# Altium footprint library MLACHM_M.PCBLIB: 91 footprints (part 2 of 7)
Each footprint in its own frame and in the unit in brackets; x right, y up, seen from the top. Pads: shape width x height; smd on the part's side, far side on the other; paste and mask are expansions set on the pad; w line width, h text height; cw(c..) or ccw(c..) is an arc to the next point about the centre after c.
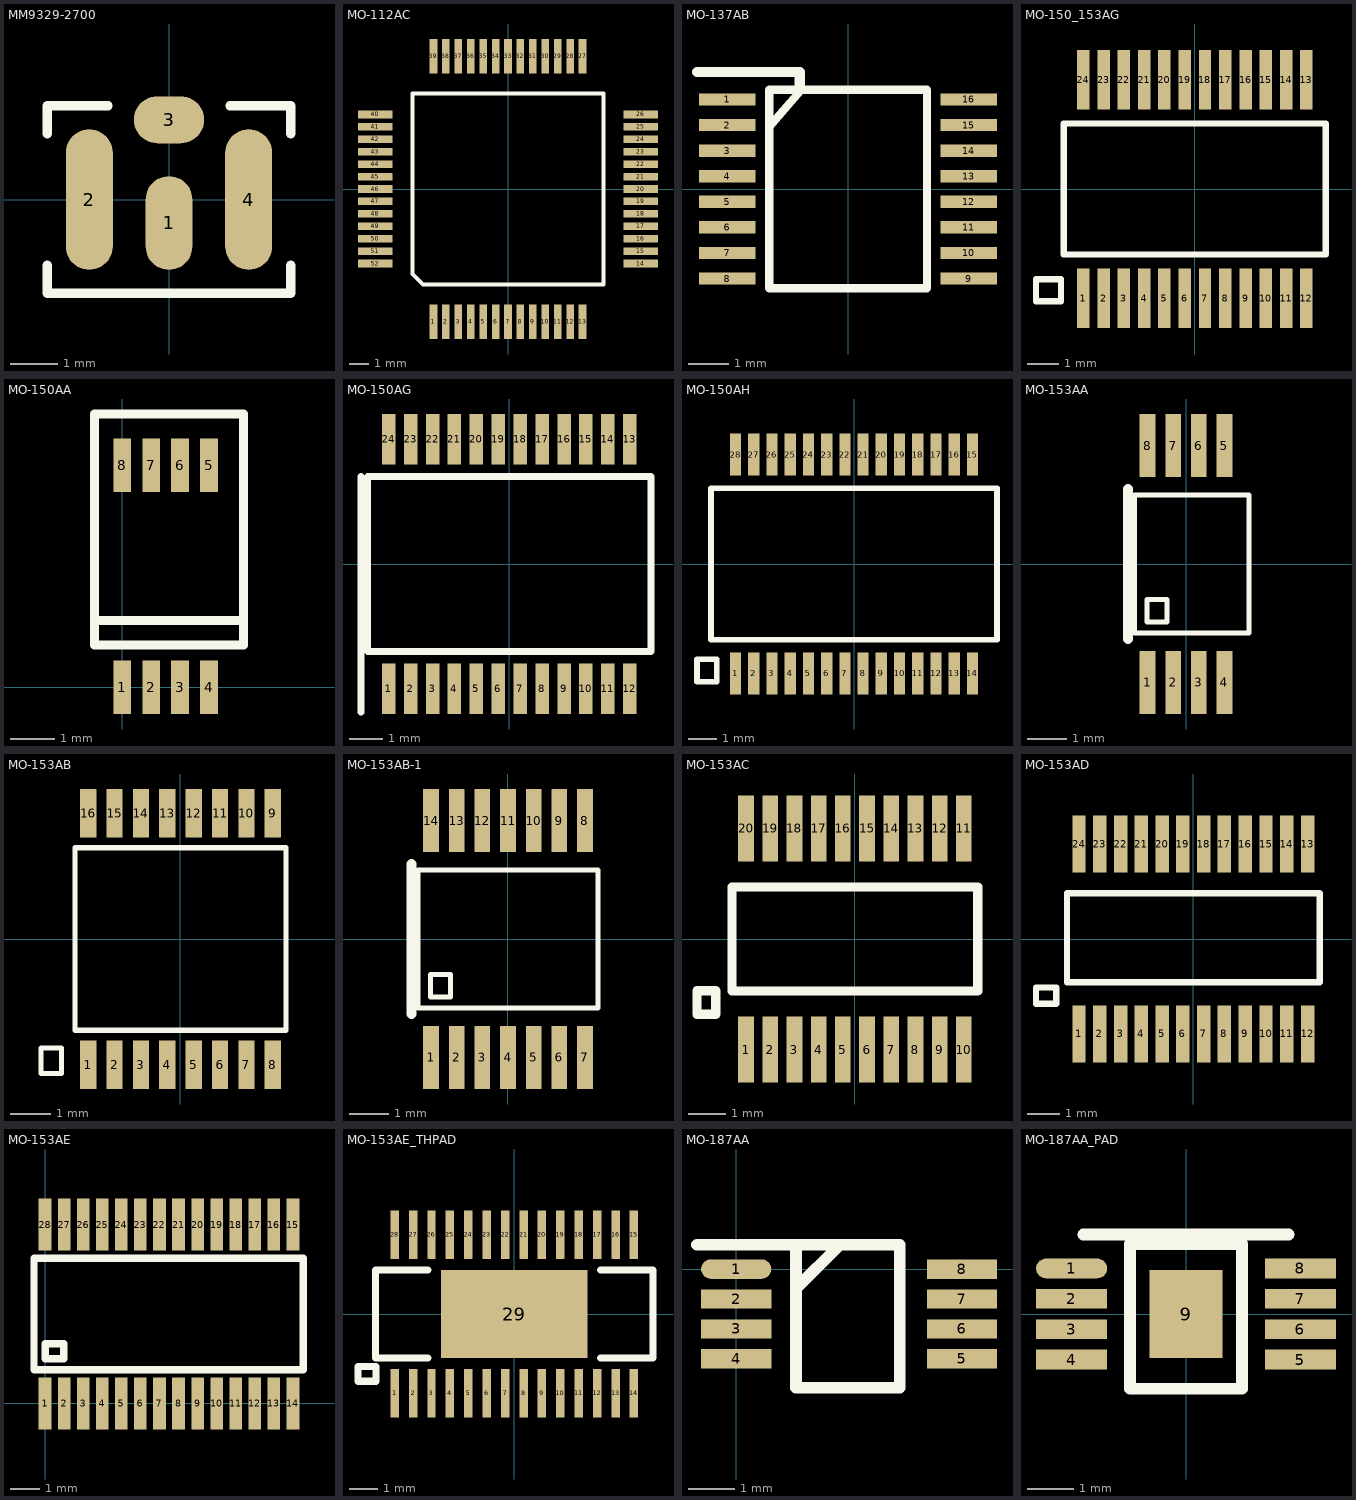
[diagram p1: the footprints below, top view; thin cyan lines are the x and y axes]

## MM9329-2700 [mm]
pads (4):
  oval 1x2 smd: 1(0,-0.5)
  oval 1x3 smd: 2(-1.7,0) 4(1.7,0)
  oval 1.5x1 smd: 3(0,1.7)
TopOverlay:
  lines w0.2: -2.6,-1.4 -2.6,-2 2.6,-2 2.6,-1.4 ; -2.6,1.4 -2.6,2 -1.3,2 ; 1.3,2 2.6,2 2.6,1.4

## MO-112AC [mm]
pads (52):
  rect 0.4x1.8 smd: 1(-3.9,-6.95) 2(-3.25,-6.95) 3(-2.6,-6.95) 4(-1.95,-6.95) 5(-1.3,-6.95) 6(-0.65,-6.95) 7(0,-6.95) 8(0.65,-6.95) 9(1.3,-6.95) 10(1.95,-6.95) 11(2.6,-6.95) 12(3.25,-6.95) 13(3.9,-6.95) 27(3.9,6.95) 28(3.25,6.95) 29(2.6,6.95) 30(1.95,6.95) 31(1.3,6.95) 32(0.65,6.95) 33(0,6.95) 34(-0.65,6.95) 35(-1.3,6.95) 36(-1.95,6.95) 37(-2.6,6.95) 38(-3.25,6.95) 39(-3.9,6.95)
  rect 1.8x0.4 smd: 14(6.95,-3.9) 15(6.95,-3.25) 16(6.95,-2.6) 17(6.95,-1.95) 18(6.95,-1.3) 19(6.95,-0.65) 20(6.95,0) 21(6.95,0.65) 22(6.95,1.3) 23(6.95,1.95) 24(6.95,2.6) 25(6.95,3.25) 26(6.95,3.9) 40(-6.95,3.9) 41(-6.95,3.25) 42(-6.95,2.6) 43(-6.95,1.95) 44(-6.95,1.3) 45(-6.95,0.65) 46(-6.95,0) 47(-6.95,-0.65) 48(-6.95,-1.3) 49(-6.95,-1.95) 50(-6.95,-2.6) 51(-6.95,-3.25) 52(-6.95,-3.9)
TopOverlay:
  lines w0.203: -5,-4.45 -5,5 5,5 5,-5 -4.45,-5 -5,-4.45
3D body: height 2.45, standoff 0.13, extent -5,-5 5,5
3D body: height 1, standoff 0.8, extent 5.05,-0.15 6.1,0.15
3D body: height 0.8, standoff 0, extent 5.9,-0.15 6.1,0.15
3D body: height 0.25, standoff 0, extent 5.9,-0.15 6.95,0.15
3D body: height 0.25, standoff 0, extent 5.9,3.75 6.95,4.05
3D body: height 0.8, standoff 0, extent 5.9,3.75 6.1,4.05
3D body: height 1, standoff 0.8, extent 5.05,3.75 6.1,4.05
3D body: height 0.25, standoff 0, extent 5.9,3.1 6.95,3.4
3D body: height 0.8, standoff 0, extent 5.9,3.1 6.1,3.4
3D body: height 1, standoff 0.8, extent 5.05,3.1 6.1,3.4
3D body: height 0.25, standoff 0, extent 5.9,2.45 6.95,2.75
3D body: height 0.8, standoff 0, extent 5.9,2.45 6.1,2.75
3D body: height 1, standoff 0.8, extent 5.05,2.45 6.1,2.75
3D body: height 0.25, standoff 0, extent 5.9,1.8 6.95,2.1
3D body: height 0.8, standoff 0, extent 5.9,1.8 6.1,2.1
3D body: height 1, standoff 0.8, extent 5.05,1.8 6.1,2.1
3D body: height 0.25, standoff 0, extent 5.9,1.15 6.95,1.45
3D body: height 0.8, standoff 0, extent 5.9,1.15 6.1,1.45
3D body: height 1, standoff 0.8, extent 5.05,1.15 6.1,1.45
3D body: height 0.25, standoff 0, extent 5.9,0.5 6.95,0.8
3D body: height 0.8, standoff 0, extent 5.9,0.5 6.1,0.8
3D body: height 1, standoff 0.8, extent 5.05,0.5 6.1,0.8
3D body: height 0.25, standoff 0, extent 5.9,-0.8 6.95,-0.5
3D body: height 0.8, standoff 0, extent 5.9,-0.8 6.1,-0.5
3D body: height 1, standoff 0.8, extent 5.05,-0.8 6.1,-0.5
3D body: height 0.25, standoff 0, extent 5.9,-1.45 6.95,-1.15
3D body: height 0.8, standoff 0, extent 5.9,-1.45 6.1,-1.15
3D body: height 1, standoff 0.8, extent 5.05,-1.45 6.1,-1.15
3D body: height 0.25, standoff 0, extent 5.9,-2.1 6.95,-1.8
3D body: height 0.8, standoff 0, extent 5.9,-2.1 6.1,-1.8
3D body: height 1, standoff 0.8, extent 5.05,-2.1 6.1,-1.8
3D body: height 0.25, standoff 0, extent 5.9,-2.75 6.95,-2.45
3D body: height 0.8, standoff 0, extent 5.9,-2.75 6.1,-2.45
3D body: height 1, standoff 0.8, extent 5.05,-2.75 6.1,-2.45
3D body: height 0.25, standoff 0, extent 5.9,-3.4 6.95,-3.1
3D body: height 0.8, standoff 0, extent 5.9,-3.4 6.1,-3.1
3D body: height 1, standoff 0.8, extent 5.05,-3.4 6.1,-3.1
3D body: height 0.25, standoff 0, extent 5.9,-4.05 6.95,-3.75
3D body: height 0.8, standoff 0, extent 5.9,-4.05 6.1,-3.75
3D body: height 1, standoff 0.8, extent 5.05,-4.05 6.1,-3.75
3D body: height 1, standoff 0.8, extent 3.75,5.05 4.05,6.1
3D body: height 0.8, standoff 0, extent 3.75,5.9 4.05,6.1
3D body: height 0.25, standoff 0, extent 3.75,5.9 4.05,6.95
3D body: height 1, standoff 0.8, extent 3.1,5.05 3.4,6.1
3D body: height 0.8, standoff 0, extent 3.1,5.9 3.4,6.1
3D body: height 0.25, standoff 0, extent 3.1,5.9 3.4,6.95
3D body: height 1, standoff 0.8, extent 2.45,5.05 2.75,6.1
3D body: height 0.8, standoff 0, extent 2.45,5.9 2.75,6.1
3D body: height 0.25, standoff 0, extent 2.45,5.9 2.75,6.95
3D body: height 1, standoff 0.8, extent 1.8,5.05 2.1,6.1
3D body: height 0.8, standoff 0, extent 1.8,5.9 2.1,6.1
3D body: height 0.25, standoff 0, extent 1.8,5.9 2.1,6.95
3D body: height 1, standoff 0.8, extent 1.15,5.05 1.45,6.1
3D body: height 0.8, standoff 0, extent 1.15,5.9 1.45,6.1
3D body: height 0.25, standoff 0, extent 1.15,5.9 1.45,6.95
3D body: height 1, standoff 0.8, extent 0.5,5.05 0.8,6.1
3D body: height 0.8, standoff 0, extent 0.5,5.9 0.8,6.1
3D body: height 0.25, standoff 0, extent 0.5,5.9 0.8,6.95
3D body: height 1, standoff 0.8, extent -0.8,5.05 -0.5,6.1
3D body: height 0.8, standoff 0, extent -0.8,5.9 -0.5,6.1
3D body: height 0.25, standoff 0, extent -0.8,5.9 -0.5,6.95
3D body: height 1, standoff 0.8, extent -1.45,5.05 -1.15,6.1
3D body: height 0.8, standoff 0, extent -1.45,5.9 -1.15,6.1
3D body: height 0.25, standoff 0, extent -1.45,5.9 -1.15,6.95
3D body: height 1, standoff 0.8, extent -2.1,5.05 -1.8,6.1
3D body: height 0.8, standoff 0, extent -2.1,5.9 -1.8,6.1
3D body: height 0.25, standoff 0, extent -2.1,5.9 -1.8,6.95
3D body: height 1, standoff 0.8, extent -2.75,5.05 -2.45,6.1
3D body: height 0.8, standoff 0, extent -2.75,5.9 -2.45,6.1
3D body: height 0.25, standoff 0, extent -2.75,5.9 -2.45,6.95
3D body: height 1, standoff 0.8, extent -3.4,5.05 -3.1,6.1
3D body: height 0.8, standoff 0, extent -3.4,5.9 -3.1,6.1
3D body: height 0.25, standoff 0, extent -3.4,5.9 -3.1,6.95
3D body: height 1, standoff 0.8, extent -4.05,5.05 -3.75,6.1
3D body: height 0.8, standoff 0, extent -4.05,5.9 -3.75,6.1
3D body: height 0.25, standoff 0, extent -4.05,5.9 -3.75,6.95
3D body: height 0.25, standoff 0, extent -0.15,5.9 0.15,6.95
3D body: height 0.8, standoff 0, extent -0.15,5.9 0.15,6.1
3D body: height 1, standoff 0.8, extent -0.15,5.05 0.15,6.1
3D body: height 1, standoff 0.8, extent -6.1,3.75 -5.05,4.05
3D body: height 0.8, standoff 0, extent -6.1,3.75 -5.9,4.05
3D body: height 0.25, standoff 0, extent -6.95,3.75 -5.9,4.05
3D body: height 1, standoff 0.8, extent -6.1,3.1 -5.05,3.4
3D body: height 0.8, standoff 0, extent -6.1,3.1 -5.9,3.4
3D body: height 0.25, standoff 0, extent -6.95,3.1 -5.9,3.4
3D body: height 1, standoff 0.8, extent -6.1,2.45 -5.05,2.75
3D body: height 0.8, standoff 0, extent -6.1,2.45 -5.9,2.75
3D body: height 0.25, standoff 0, extent -6.95,2.45 -5.9,2.75
3D body: height 1, standoff 0.8, extent -6.1,1.8 -5.05,2.1
3D body: height 0.8, standoff 0, extent -6.1,1.8 -5.9,2.1
3D body: height 0.25, standoff 0, extent -6.95,1.8 -5.9,2.1
3D body: height 1, standoff 0.8, extent -6.1,1.15 -5.05,1.45
3D body: height 0.8, standoff 0, extent -6.1,1.15 -5.9,1.45
3D body: height 0.25, standoff 0, extent -6.95,1.15 -5.9,1.45
3D body: height 1, standoff 0.8, extent -6.1,0.5 -5.05,0.8
3D body: height 0.8, standoff 0, extent -6.1,0.5 -5.9,0.8
3D body: height 0.25, standoff 0, extent -6.95,0.5 -5.9,0.8
3D body: height 1, standoff 0.8, extent -6.1,-0.8 -5.05,-0.5
3D body: height 0.8, standoff 0, extent -6.1,-0.8 -5.9,-0.5
3D body: height 0.25, standoff 0, extent -6.95,-0.8 -5.9,-0.5
3D body: height 1, standoff 0.8, extent -6.1,-1.45 -5.05,-1.15
3D body: height 0.8, standoff 0, extent -6.1,-1.45 -5.9,-1.15
3D body: height 0.25, standoff 0, extent -6.95,-1.45 -5.9,-1.15
3D body: height 1, standoff 0.8, extent -6.1,-2.1 -5.05,-1.8
3D body: height 0.8, standoff 0, extent -6.1,-2.1 -5.9,-1.8
3D body: height 0.25, standoff 0, extent -6.95,-2.1 -5.9,-1.8
3D body: height 1, standoff 0.8, extent -6.1,-2.75 -5.05,-2.45
3D body: height 0.8, standoff 0, extent -6.1,-2.75 -5.9,-2.45
3D body: height 0.25, standoff 0, extent -6.95,-2.75 -5.9,-2.45
3D body: height 1, standoff 0.8, extent -6.1,-3.4 -5.05,-3.1
3D body: height 0.8, standoff 0, extent -6.1,-3.4 -5.9,-3.1
3D body: height 0.25, standoff 0, extent -6.95,-3.4 -5.9,-3.1
3D body: height 1, standoff 0.8, extent -6.1,-4.05 -5.05,-3.75
3D body: height 0.8, standoff 0, extent -6.1,-4.05 -5.9,-3.75
3D body: height 0.25, standoff 0, extent -6.95,-4.05 -5.9,-3.75
3D body: height 0.25, standoff 0, extent -6.95,-0.15 -5.9,0.15
3D body: height 0.8, standoff 0, extent -6.1,-0.15 -5.9,0.15
3D body: height 1, standoff 0.8, extent -6.1,-0.15 -5.05,0.15
3D body: height 1, standoff 0.8, extent -4.05,-6.1 -3.75,-5.05
3D body: height 0.8, standoff 0, extent -4.05,-6.1 -3.75,-5.9
3D body: height 0.25, standoff 0, extent -4.05,-6.95 -3.75,-5.9
3D body: height 1, standoff 0.8, extent -3.4,-6.1 -3.1,-5.05
3D body: height 0.8, standoff 0, extent -3.4,-6.1 -3.1,-5.9
3D body: height 0.25, standoff 0, extent -3.4,-6.95 -3.1,-5.9
3D body: height 1, standoff 0.8, extent -2.75,-6.1 -2.45,-5.05
3D body: height 0.8, standoff 0, extent -2.75,-6.1 -2.45,-5.9
3D body: height 0.25, standoff 0, extent -2.75,-6.95 -2.45,-5.9
3D body: height 1, standoff 0.8, extent -2.1,-6.1 -1.8,-5.05
3D body: height 0.8, standoff 0, extent -2.1,-6.1 -1.8,-5.9
3D body: height 0.25, standoff 0, extent -2.1,-6.95 -1.8,-5.9
3D body: height 1, standoff 0.8, extent -1.45,-6.1 -1.15,-5.05
3D body: height 0.8, standoff 0, extent -1.45,-6.1 -1.15,-5.9
3D body: height 0.25, standoff 0, extent -1.45,-6.95 -1.15,-5.9
3D body: height 1, standoff 0.8, extent -0.8,-6.1 -0.5,-5.05
3D body: height 0.8, standoff 0, extent -0.8,-6.1 -0.5,-5.9
3D body: height 0.25, standoff 0, extent -0.8,-6.95 -0.5,-5.9
3D body: height 1, standoff 0.8, extent 0.5,-6.1 0.8,-5.05
3D body: height 0.8, standoff 0, extent 0.5,-6.1 0.8,-5.9
3D body: height 0.25, standoff 0, extent 0.5,-6.95 0.8,-5.9
3D body: height 1, standoff 0.8, extent 1.15,-6.1 1.45,-5.05
3D body: height 0.8, standoff 0, extent 1.15,-6.1 1.45,-5.9
3D body: height 0.25, standoff 0, extent 1.15,-6.95 1.45,-5.9
3D body: height 1, standoff 0.8, extent 1.8,-6.1 2.1,-5.05
3D body: height 0.8, standoff 0, extent 1.8,-6.1 2.1,-5.9
3D body: height 0.25, standoff 0, extent 1.8,-6.95 2.1,-5.9
3D body: height 1, standoff 0.8, extent 2.45,-6.1 2.75,-5.05
3D body: height 0.8, standoff 0, extent 2.45,-6.1 2.75,-5.9
3D body: height 0.25, standoff 0, extent 2.45,-6.95 2.75,-5.9
3D body: height 1, standoff 0.8, extent 3.1,-6.1 3.4,-5.05
3D body: height 0.8, standoff 0, extent 3.1,-6.1 3.4,-5.9
3D body: height 0.25, standoff 0, extent 3.1,-6.95 3.4,-5.9
3D body: height 1, standoff 0.8, extent 3.75,-6.1 4.05,-5.05
3D body: height 0.8, standoff 0, extent 3.75,-6.1 4.05,-5.9
3D body: height 0.25, standoff 0, extent 3.75,-6.95 4.05,-5.9
3D body: height 0.25, standoff 0, extent -0.15,-6.95 0.15,-5.9
3D body: height 0.8, standoff 0, extent -0.15,-6.1 0.15,-5.9
3D body: height 1, standoff 0.8, extent -0.15,-6.1 0.15,-5.05

## MO-137AB [mil]
pads (16):
  rect 55x12 smd: 1(-118,87.5) 2(-118,62.5) 3(-118,37.5) 4(-118,12.5) 5(-118,-12.5) 6(-118,-37.5) 7(-118,-62.5) 8(-118,-87.5) 9(118,-87.5) 10(118,-62.5) 11(118,-37.5) 12(118,-12.5) 13(118,12.5) 14(118,37.5) 15(118,62.5) 16(118,87.5)
TopOverlay:
  lines w8: -77,61 -46.45,96 ; -77,-97 77,-97 77,97 -77,97 -77,-97
  lines w9.84: -147.64,114.17 -47.24,114.17 -47.24,97
3D body: height 69, standoff 10, extent -77,-97 77,97
3D body: height 10, standoff 0, extent -118,82.5 -90,92.5
3D body: height 35, standoff 25, extent -100,82.5 -72,92.5
3D body: height 35, standoff 0, extent -100,82.5 -90,92.5
3D body: height 35, standoff 0, extent -100,57.5 -90,67.5
3D body: height 35, standoff 25, extent -100,57.5 -72,67.5
3D body: height 10, standoff 0, extent -118,57.5 -90,67.5
3D body: height 35, standoff 0, extent -100,32.5 -90,42.5
3D body: height 35, standoff 25, extent -100,32.5 -72,42.5
3D body: height 10, standoff 0, extent -118,32.5 -90,42.5
3D body: height 35, standoff 0, extent -100,7.5 -90,17.5
3D body: height 35, standoff 25, extent -100,7.5 -72,17.5
3D body: height 10, standoff 0, extent -118,7.5 -90,17.5
3D body: height 10, standoff 0, extent -118,-92.5 -90,-82.5
3D body: height 35, standoff 25, extent -100,-92.5 -72,-82.5
3D body: height 35, standoff 0, extent -100,-92.5 -90,-82.5
3D body: height 10, standoff 0, extent -118,-67.5 -90,-57.5
3D body: height 35, standoff 25, extent -100,-67.5 -72,-57.5
3D body: height 35, standoff 0, extent -100,-67.5 -90,-57.5
3D body: height 10, standoff 0, extent -118,-42.5 -90,-32.5
3D body: height 35, standoff 25, extent -100,-42.5 -72,-32.5
3D body: height 35, standoff 0, extent -100,-42.5 -90,-32.5
3D body: height 35, standoff 0, extent -100,-17.5 -90,-7.5
3D body: height 35, standoff 25, extent -100,-17.5 -72,-7.5
3D body: height 10, standoff 0, extent -118,-17.5 -90,-7.5
3D body: height 10, standoff 0, extent 90,-17.5 118,-7.5
3D body: height 35, standoff 25, extent 72,-17.5 100,-7.5
3D body: height 35, standoff 0, extent 90,-17.5 100,-7.5
3D body: height 35, standoff 0, extent 90,-42.5 100,-32.5
3D body: height 35, standoff 25, extent 72,-42.5 100,-32.5
3D body: height 10, standoff 0, extent 90,-42.5 118,-32.5
3D body: height 35, standoff 0, extent 90,-67.5 100,-57.5
3D body: height 35, standoff 25, extent 72,-67.5 100,-57.5
3D body: height 10, standoff 0, extent 90,-67.5 118,-57.5
3D body: height 35, standoff 0, extent 90,-92.5 100,-82.5
3D body: height 35, standoff 25, extent 72,-92.5 100,-82.5
3D body: height 10, standoff 0, extent 90,-92.5 118,-82.5
3D body: height 10, standoff 0, extent 90,7.5 118,17.5
3D body: height 35, standoff 25, extent 72,7.5 100,17.5
3D body: height 35, standoff 0, extent 90,7.5 100,17.5
3D body: height 10, standoff 0, extent 90,32.5 118,42.5
3D body: height 35, standoff 25, extent 72,32.5 100,42.5
3D body: height 35, standoff 0, extent 90,32.5 100,42.5
3D body: height 10, standoff 0, extent 90,57.5 118,67.5
3D body: height 35, standoff 25, extent 72,57.5 100,67.5
3D body: height 35, standoff 0, extent 90,57.5 100,67.5
3D body: height 35, standoff 0, extent 90,82.5 100,92.5
3D body: height 35, standoff 25, extent 72,82.5 100,92.5
3D body: height 10, standoff 0, extent 90,82.5 118,92.5

## MO-150_153AG [mm]
pads (24):
  rect 0.4x1.9 smd mask+0.203: 1(-3.575,-3.5) 2(-2.925,-3.5) 3(-2.275,-3.5) 4(-1.625,-3.5) 5(-0.975,-3.5) 6(-0.325,-3.5) 7(0.325,-3.5) 8(0.975,-3.5) 9(1.625,-3.5) 10(2.275,-3.5) 11(2.925,-3.5) 12(3.575,-3.5) 13(3.575,3.5) 14(2.925,3.5) 15(2.275,3.5) 16(1.625,3.5) 17(0.975,3.5) 18(0.325,3.5) 19(-0.325,3.5) 20(-0.975,3.5) 21(-1.625,3.5) 22(-2.275,3.5) 23(-2.925,3.5) 24(-3.575,3.5)
TopOverlay:
  lines w0.203: -5.093,-3.597 -5.093,-2.897 -4.293,-2.897 -4.293,-3.597 -5.093,-3.597 ; -4.2,-2.1 4.2,-2.1 4.2,2.1 -4.2,2.1 -4.2,-2.1
3D body: height 0.5, standoff 0, extent -3.85,2.55 -3.3,3.7
3D body: height 0.5, standoff 0, extent -3.2,2.55 -2.65,3.7
3D body: height 0.5, standoff 0, extent -2.55,2.55 -2,3.7
3D body: height 0.5, standoff 0, extent -1.9,2.55 -1.35,3.7
3D body: height 0.5, standoff 0, extent -1.25,2.55 -0.7,3.7
3D body: height 0.5, standoff 0, extent -0.6,2.55 -0.05,3.7
3D body: height 0.5, standoff 0, extent 0.05,2.55 0.6,3.7
3D body: height 0.5, standoff 0, extent 0.7,2.55 1.25,3.7
3D body: height 0.5, standoff 0, extent 1.35,2.55 1.9,3.7
3D body: height 0.5, standoff 0, extent 2,2.55 2.55,3.7
3D body: height 0.5, standoff 0, extent 2.65,2.55 3.2,3.7
3D body: height 0.5, standoff 0, extent 3.3,2.55 3.85,3.7
3D body: height 0.5, standoff 0, extent 3.3,-3.8 3.85,-2.65
3D body: height 0.5, standoff 0, extent 2.65,-3.8 3.2,-2.65
3D body: height 0.5, standoff 0, extent 2,-3.8 2.55,-2.65
3D body: height 0.5, standoff 0, extent 1.35,-3.8 1.9,-2.65
3D body: height 0.5, standoff 0, extent 0.7,-3.8 1.25,-2.65
3D body: height 0.5, standoff 0, extent 0.05,-3.8 0.6,-2.65
3D body: height 0.5, standoff 0, extent -0.6,-3.8 -0.05,-2.65
3D body: height 0.5, standoff 0, extent -1.25,-3.8 -0.7,-2.65
3D body: height 0.5, standoff 0, extent -1.9,-3.8 -1.35,-2.65
3D body: height 0.5, standoff 0, extent -2.55,-3.8 -2,-2.65
3D body: height 0.5, standoff 0, extent -3.2,-3.8 -2.65,-2.65
3D body: height 0.5, standoff 0, extent -3.85,-3.8 -3.3,-2.65
3D body: height 1.75, standoff 0.1, extent -4.1,-2.7 4.1,2.7

## MO-150AA [mm]
pads (8):
  rect 0.4x1.2 smd: 1(0,0) 2(0.65,0) 3(1.3,0) 4(1.95,0) 5(1.95,5) 6(1.3,5) 7(0.65,5) 8(0,5)
TopOverlay:
  lines w0.203: -0.625,1.5 2.725,1.5 ; -0.625,0.95 -0.625,6.15 2.725,6.15 2.725,0.95 -0.625,0.95

## MO-150AG [mm]
pads (24):
  rect 0.4x1.5 smd mask+0.203: 1(-3.575,-3.7) 2(-2.925,-3.7) 3(-2.275,-3.7) 4(-1.625,-3.7) 5(-0.975,-3.7) 6(-0.325,-3.7) 7(0.325,-3.7) 8(0.975,-3.7) 9(1.625,-3.7) 10(2.275,-3.7) 11(2.925,-3.7) 12(3.575,-3.7) 13(3.575,3.7) 14(2.925,3.7) 15(2.275,3.7) 16(1.625,3.7) 17(0.975,3.7) 18(0.325,3.7) 19(-0.325,3.7) 20(-0.975,3.7) 21(-1.625,3.7) 22(-2.275,3.7) 23(-2.925,3.7) 24(-3.575,3.7)
TopOverlay:
  lines w0.203: -4.4,-4.4 -4.4,2.6 ; -4.2,-2.6 -4.2,2.6 4.2,2.6 4.2,-2.6 -4.2,-2.6
3D body: height 1.75, standoff 0.1, extent -4.1,-2.7 4.1,2.7
3D body: height 0.5, standoff 0, extent -3.85,-3.8 -3.3,-2.65
3D body: height 0.5, standoff 0, extent -3.2,-3.8 -2.65,-2.65
3D body: height 0.5, standoff 0, extent -2.55,-3.8 -2,-2.65
3D body: height 0.5, standoff 0, extent -1.9,-3.8 -1.35,-2.65
3D body: height 0.5, standoff 0, extent -1.25,-3.8 -0.7,-2.65
3D body: height 0.5, standoff 0, extent -0.6,-3.8 -0.05,-2.65
3D body: height 0.5, standoff 0, extent 0.05,-3.8 0.6,-2.65
3D body: height 0.5, standoff 0, extent 0.7,-3.8 1.25,-2.65
3D body: height 0.5, standoff 0, extent 1.35,-3.8 1.9,-2.65
3D body: height 0.5, standoff 0, extent 2,-3.8 2.55,-2.65
3D body: height 0.5, standoff 0, extent 2.65,-3.8 3.2,-2.65
3D body: height 0.5, standoff 0, extent 3.3,-3.8 3.85,-2.65
3D body: height 0.5, standoff 0, extent 3.3,2.55 3.85,3.7
3D body: height 0.5, standoff 0, extent 2.65,2.55 3.2,3.7
3D body: height 0.5, standoff 0, extent 2,2.55 2.55,3.7
3D body: height 0.5, standoff 0, extent 1.35,2.55 1.9,3.7
3D body: height 0.5, standoff 0, extent 0.7,2.55 1.25,3.7
3D body: height 0.5, standoff 0, extent 0.05,2.55 0.6,3.7
3D body: height 0.5, standoff 0, extent -0.6,2.55 -0.05,3.7
3D body: height 0.5, standoff 0, extent -1.25,2.55 -0.7,3.7
3D body: height 0.5, standoff 0, extent -1.9,2.55 -1.35,3.7
3D body: height 0.5, standoff 0, extent -2.55,2.55 -2,3.7
3D body: height 0.5, standoff 0, extent -3.2,2.55 -2.65,3.7
3D body: height 0.5, standoff 0, extent -3.85,2.55 -3.3,3.7

## MO-150AH [mm]
pads (28):
  rect 0.4x1.5 smd: 1(-4.225,-3.9) 2(-3.575,-3.9) 3(-2.925,-3.9) 4(-2.275,-3.9) 5(-1.625,-3.9) 6(-0.975,-3.9) 7(-0.325,-3.9) 8(0.325,-3.9) 9(0.975,-3.9) 10(1.625,-3.9) 11(2.275,-3.9) 12(2.925,-3.9) 13(3.575,-3.9) 14(4.225,-3.9) 15(4.225,3.9) 16(3.575,3.9) 17(2.925,3.9) 18(2.275,3.9) 19(1.625,3.9) 20(0.975,3.9) 21(0.325,3.9) 22(-0.325,3.9) 23(-0.975,3.9) 24(-1.625,3.9) 25(-2.275,3.9) 26(-2.925,3.9) 27(-3.575,3.9) 28(-4.225,3.9)
TopOverlay:
  lines w0.203: -5.6,-4.2 -5.6,-3.4 -4.9,-3.4 -4.9,-4.2 -5.6,-4.2 ; -5.1,-2.7 -5.1,2.7 5.1,2.7 5.1,-2.7 -5.1,-2.7

## MO-153AA [mm]
pads (8):
  rect 0.4x1.6 smd mask+0.2: 1(-0.975,-3) 2(-0.325,-3) 3(0.325,-3) 4(0.975,-3) 5(0.975,3) 6(0.325,3) 7(-0.325,3) 8(-0.975,3)
TopOverlay:
  lines w0.127: -1.3,-1.75 -1.3,1.75 1.6,1.75 1.6,-1.75 -1.3,-1.75 ; -0.992,-1.471 -0.992,-0.9 -0.484,-0.9 -0.484,-1.471 -0.992,-1.471
  lines w0.254: -1.475,-1.9 -1.475,1.9
3D body: height 1.2, standoff 0, extent -1.575,-2.2 1.6,2.2
3D body: height 0.6, standoff 0, extent 0.825,-3.2 1.125,-2.2
3D body: height 0.6, standoff 0, extent -1.125,-3.2 -0.825,-2.2
3D body: height 0.6, standoff 0, extent -0.475,-3.2 -0.175,-2.2
3D body: height 0.6, standoff 0, extent 0.175,-3.2 0.475,-2.2
3D body: height 0.6, standoff 0, extent -1.125,2.2 -0.825,3.2
3D body: height 0.6, standoff 0, extent -0.475,2.2 -0.175,3.2
3D body: height 0.6, standoff 0, extent 0.175,2.2 0.475,3.2
3D body: height 0.6, standoff 0, extent 0.825,2.2 1.125,3.2

## MO-153AB [mm]
pads (16):
  rect 0.4x1.2 smd: 1(-2.275,-3.1) 2(-1.625,-3.1) 3(-0.975,-3.1) 4(-0.325,-3.1) 5(0.325,-3.1) 6(0.975,-3.1) 7(1.625,-3.1) 8(2.275,-3.1) 9(2.275,3.1) 10(1.625,3.1) 11(0.975,3.1) 12(0.325,3.1) 13(-0.325,3.1) 14(-0.975,3.1) 15(-1.625,3.1) 16(-2.275,3.1)
TopOverlay:
  lines w0.127: -3.442,-3.321 -2.934,-3.321 -2.934,-2.686 -3.442,-2.686 -3.442,-3.321 ; -2.6,-2.25 2.6,-2.25 2.6,2.25 -2.6,2.25 -2.6,-2.25
3D body: height 1.2, standoff 0, extent -2.875,-2.2 2.925,2.2
3D body: height 0.6, standoff 0, extent -0.475,-3.2 -0.175,-2.2
3D body: height 0.6, standoff 0, extent -2.425,-3.2 -2.125,-2.2
3D body: height 0.6, standoff 0, extent -1.775,-3.2 -1.475,-2.2
3D body: height 0.6, standoff 0, extent -1.125,-3.2 -0.825,-2.2
3D body: height 0.6, standoff 0, extent 0.175,-3.2 0.475,-2.2
3D body: height 0.6, standoff 0, extent 0.825,-3.2 1.125,-2.2
3D body: height 0.6, standoff 0, extent 1.475,-3.2 1.775,-2.2
3D body: height 0.6, standoff 0, extent -2.425,2.2 -2.125,3.2
3D body: height 0.6, standoff 0, extent -1.775,2.2 -1.475,3.2
3D body: height 0.6, standoff 0, extent -1.125,2.2 -0.825,3.2
3D body: height 0.6, standoff 0, extent 0.175,2.2 0.475,3.2
3D body: height 0.6, standoff 0, extent 0.825,2.2 1.125,3.2
3D body: height 0.6, standoff 0, extent 1.475,2.2 1.775,3.2
3D body: height 0.6, standoff 0, extent -0.475,2.2 -0.175,3.2
3D body: height 0.6, standoff 0, extent 2.125,2.375 2.425,3.375
3D body: height 0.6, standoff 0, extent 2.125,-3.025 2.425,-2.025

## MO-153AB-1 [mm]
pads (14):
  rect 0.4x1.6 smd mask+0.2: 1(-1.95,-3) 2(-1.3,-3) 3(-0.65,-3) 4(0,-3) 5(0.65,-3) 6(1.3,-3) 7(1.95,-3) 8(1.95,3) 9(1.3,3) 10(0.65,3) 11(0,3) 12(-0.65,3) 13(-1.3,3) 14(-1.95,3)
TopOverlay:
  lines w0.127: -2.275,-1.75 2.275,-1.75 2.275,1.75 -2.275,1.75 -2.275,-1.75 ; -1.967,-1.471 -1.459,-1.471 -1.459,-0.9 -1.967,-0.9 -1.967,-1.471
  lines w0.254: -2.45,-1.9 -2.45,1.9
3D body: height 0.6, standoff 0, extent -0.15,2.2 0.15,3.2
3D body: height 0.6, standoff 0, extent 1.8,2.2 2.1,3.2
3D body: height 0.6, standoff 0, extent 1.15,2.2 1.45,3.2
3D body: height 0.6, standoff 0, extent 0.5,2.2 0.8,3.2
3D body: height 0.6, standoff 0, extent -0.8,2.2 -0.5,3.2
3D body: height 0.6, standoff 0, extent -1.45,2.2 -1.15,3.2
3D body: height 0.6, standoff 0, extent -2.1,2.2 -1.8,3.2
3D body: height 0.6, standoff 0, extent 1.8,-3.2 2.1,-2.2
3D body: height 0.6, standoff 0, extent 1.15,-3.2 1.45,-2.2
3D body: height 0.6, standoff 0, extent 0.5,-3.2 0.8,-2.2
3D body: height 0.6, standoff 0, extent -0.8,-3.2 -0.5,-2.2
3D body: height 0.6, standoff 0, extent -1.45,-3.2 -1.15,-2.2
3D body: height 0.6, standoff 0, extent -2.1,-3.2 -1.8,-2.2
3D body: height 0.6, standoff 0, extent -0.15,-3.2 0.15,-2.2
3D body: height 1.2, standoff 0, extent -2.55,-2.2 2.55,2.2

## MO-153AC [mm]
pads (20):
  rect 0.42x1.78 smd: 1(-2.925,-2.97) 2(-2.275,-2.97) 3(-1.625,-2.97) 4(-0.975,-2.97) 5(-0.325,-2.97) 6(0.325,-2.97) 7(0.975,-2.97) 8(1.625,-2.97) 9(2.275,-2.97) 10(2.925,-2.97) 11(2.925,2.97) 12(2.275,2.97) 13(1.625,2.97) 14(0.975,2.97) 15(0.325,2.97) 16(-0.325,2.97) 17(-0.975,2.97) 18(-1.625,2.97) 19(-2.275,2.97) 20(-2.925,2.97)
TopOverlay:
  lines w0.254: -4.242,-2.021 -4.242,-1.386 -3.734,-1.386 -3.734,-2.021 -4.242,-2.021 ; -3.302,-1.397 -3.302,1.397 3.302,1.397 3.302,-1.397 -3.302,-1.397
3D body: height 1.2, standoff 0, extent -3.25,-2.2 3.25,2.2
3D body: height 0.15, standoff 0, extent -3.075,-3.2 -2.775,-2.6
3D body: height 0.6, standoff 0, extent -3.075,-2.75 -2.775,-2.6
3D body: height 0.6, standoff 0.45, extent -3.075,-2.75 -2.775,-2.15
3D body: height 0.15, standoff 0, extent -2.425,-3.2 -2.125,-2.6
3D body: height 0.6, standoff 0, extent -2.425,-2.75 -2.125,-2.6
3D body: height 0.6, standoff 0.45, extent -2.425,-2.75 -2.125,-2.15
3D body: height 0.15, standoff 0, extent -1.775,-3.2 -1.475,-2.6
3D body: height 0.6, standoff 0, extent -1.775,-2.75 -1.475,-2.6
3D body: height 0.6, standoff 0.45, extent -1.775,-2.75 -1.475,-2.15
3D body: height 0.15, standoff 0, extent -1.125,-3.2 -0.825,-2.6
3D body: height 0.6, standoff 0, extent -1.125,-2.75 -0.825,-2.6
3D body: height 0.6, standoff 0.45, extent -1.125,-2.75 -0.825,-2.15
3D body: height 0.15, standoff 0, extent -0.475,-3.2 -0.175,-2.6
3D body: height 0.6, standoff 0, extent -0.475,-2.75 -0.175,-2.6
3D body: height 0.6, standoff 0.45, extent -0.475,-2.75 -0.175,-2.15
3D body: height 0.15, standoff 0, extent 0.175,-3.2 0.475,-2.6
3D body: height 0.6, standoff 0, extent 0.175,-2.75 0.475,-2.6
3D body: height 0.6, standoff 0.45, extent 0.175,-2.75 0.475,-2.15
3D body: height 0.15, standoff 0, extent 0.825,-3.2 1.125,-2.6
3D body: height 0.6, standoff 0, extent 0.825,-2.75 1.125,-2.6
3D body: height 0.6, standoff 0.45, extent 0.825,-2.75 1.125,-2.15
3D body: height 0.15, standoff 0, extent 1.475,-3.2 1.775,-2.6
3D body: height 0.6, standoff 0, extent 1.475,-2.75 1.775,-2.6
3D body: height 0.6, standoff 0.45, extent 1.475,-2.75 1.775,-2.15
3D body: height 0.15, standoff 0, extent 2.125,-3.2 2.425,-2.6
3D body: height 0.6, standoff 0, extent 2.125,-2.75 2.425,-2.6
3D body: height 0.6, standoff 0.45, extent 2.125,-2.75 2.425,-2.15
3D body: height 0.15, standoff 0, extent 2.775,-3.2 3.075,-2.6
3D body: height 0.6, standoff 0, extent 2.775,-2.75 3.075,-2.6
3D body: height 0.6, standoff 0.45, extent 2.775,-2.75 3.075,-2.15
3D body: height 0.6, standoff 0.45, extent 2.775,2.15 3.075,2.75
3D body: height 0.6, standoff 0, extent 2.775,2.6 3.075,2.75
3D body: height 0.15, standoff 0, extent 2.775,2.6 3.075,3.2
3D body: height 0.6, standoff 0.45, extent 2.125,2.15 2.425,2.75
3D body: height 0.6, standoff 0, extent 2.125,2.6 2.425,2.75
3D body: height 0.15, standoff 0, extent 2.125,2.6 2.425,3.2
3D body: height 0.6, standoff 0.45, extent 1.475,2.15 1.775,2.75
3D body: height 0.6, standoff 0, extent 1.475,2.6 1.775,2.75
3D body: height 0.15, standoff 0, extent 1.475,2.6 1.775,3.2
3D body: height 0.6, standoff 0.45, extent 0.825,2.15 1.125,2.75
3D body: height 0.6, standoff 0, extent 0.825,2.6 1.125,2.75
3D body: height 0.15, standoff 0, extent 0.825,2.6 1.125,3.2
3D body: height 0.6, standoff 0.45, extent 0.175,2.15 0.475,2.75
3D body: height 0.6, standoff 0, extent 0.175,2.6 0.475,2.75
3D body: height 0.15, standoff 0, extent 0.175,2.6 0.475,3.2
3D body: height 0.6, standoff 0.45, extent -0.475,2.15 -0.175,2.75
3D body: height 0.6, standoff 0, extent -0.475,2.6 -0.175,2.75
3D body: height 0.15, standoff 0, extent -0.475,2.6 -0.175,3.2
3D body: height 0.6, standoff 0.45, extent -1.125,2.15 -0.825,2.75
3D body: height 0.6, standoff 0, extent -1.125,2.6 -0.825,2.75
3D body: height 0.15, standoff 0, extent -1.125,2.6 -0.825,3.2
3D body: height 0.6, standoff 0.45, extent -1.775,2.15 -1.475,2.75
3D body: height 0.6, standoff 0, extent -1.775,2.6 -1.475,2.75
3D body: height 0.15, standoff 0, extent -1.775,2.6 -1.475,3.2
3D body: height 0.6, standoff 0.45, extent -2.425,2.15 -2.125,2.75
3D body: height 0.6, standoff 0, extent -2.425,2.6 -2.125,2.75
3D body: height 0.15, standoff 0, extent -2.425,2.6 -2.125,3.2
3D body: height 0.6, standoff 0.45, extent -3.075,2.15 -2.775,2.75
3D body: height 0.6, standoff 0, extent -3.075,2.6 -2.775,2.75
3D body: height 0.15, standoff 0, extent -3.075,2.6 -2.775,3.2

## MO-153AD [mm]
pads (24):
  rect 0.42x1.78 smd paste-0.025: 1(-3.575,-2.97) 2(-2.925,-2.97) 3(-2.275,-2.97) 4(-1.625,-2.97) 5(-0.975,-2.97) 6(-0.325,-2.97) 7(0.325,-2.97) 8(0.975,-2.97) 9(1.625,-2.97) 10(2.275,-2.97) 11(2.925,-2.97) 12(3.575,-2.97) 13(3.575,2.97) 14(2.925,2.97) 15(2.275,2.97) 16(1.625,2.97) 17(0.975,2.97) 18(0.325,2.97) 19(-0.325,2.97) 20(-0.975,2.97) 21(-1.625,2.97) 22(-2.275,2.97) 23(-2.925,2.97) 24(-3.575,2.97)
TopOverlay:
  lines w0.2: -4.921,-2.026 -4.921,-1.518 -4.286,-1.518 -4.286,-2.026 -4.921,-2.026 ; -3.952,-1.357 3.952,-1.357 3.952,1.437 -3.952,1.437 -3.952,-1.357
3D body: height 0.6, standoff 0.45, extent -3.725,2.15 -3.425,2.75
3D body: height 0.6, standoff 0, extent -3.725,2.6 -3.425,2.75
3D body: height 0.15, standoff 0, extent -3.725,2.6 -3.425,3.2
3D body: height 0.15, standoff 0, extent -3.075,2.6 -2.775,3.2
3D body: height 0.6, standoff 0, extent -3.075,2.6 -2.775,2.75
3D body: height 0.6, standoff 0.45, extent -3.075,2.15 -2.775,2.75
3D body: height 0.15, standoff 0, extent -2.425,2.6 -2.125,3.2
3D body: height 0.6, standoff 0, extent -2.425,2.6 -2.125,2.75
3D body: height 0.6, standoff 0.45, extent -2.425,2.15 -2.125,2.75
3D body: height 0.15, standoff 0, extent -1.775,2.6 -1.475,3.2
3D body: height 0.6, standoff 0, extent -1.775,2.6 -1.475,2.75
3D body: height 0.6, standoff 0.45, extent -1.775,2.15 -1.475,2.75
3D body: height 0.15, standoff 0, extent -1.125,2.6 -0.825,3.2
3D body: height 0.6, standoff 0, extent -1.125,2.6 -0.825,2.75
3D body: height 0.6, standoff 0.45, extent -1.125,2.15 -0.825,2.75
3D body: height 0.15, standoff 0, extent -0.475,2.6 -0.175,3.2
3D body: height 0.6, standoff 0, extent -0.475,2.6 -0.175,2.75
3D body: height 0.6, standoff 0.45, extent -0.475,2.15 -0.175,2.75
3D body: height 0.15, standoff 0, extent 0.175,2.6 0.475,3.2
3D body: height 0.6, standoff 0, extent 0.175,2.6 0.475,2.75
3D body: height 0.6, standoff 0.45, extent 0.175,2.15 0.475,2.75
3D body: height 0.15, standoff 0, extent 0.825,2.6 1.125,3.2
3D body: height 0.6, standoff 0, extent 0.825,2.6 1.125,2.75
3D body: height 0.6, standoff 0.45, extent 0.825,2.15 1.125,2.75
3D body: height 0.15, standoff 0, extent 1.475,2.6 1.775,3.2
3D body: height 0.6, standoff 0, extent 1.475,2.6 1.775,2.75
3D body: height 0.6, standoff 0.45, extent 1.475,2.15 1.775,2.75
3D body: height 0.15, standoff 0, extent 2.125,2.6 2.425,3.2
3D body: height 0.6, standoff 0, extent 2.125,2.6 2.425,2.75
3D body: height 0.6, standoff 0.45, extent 2.125,2.15 2.425,2.75
3D body: height 0.15, standoff 0, extent 2.775,2.6 3.075,3.2
3D body: height 0.6, standoff 0, extent 2.775,2.6 3.075,2.75
3D body: height 0.6, standoff 0.45, extent 2.775,2.15 3.075,2.75
3D body: height 0.15, standoff 0, extent 3.425,2.6 3.725,3.2
3D body: height 0.6, standoff 0, extent 3.425,2.6 3.725,2.75
3D body: height 0.6, standoff 0.45, extent 3.425,2.15 3.725,2.75
3D body: height 0.6, standoff 0.45, extent 3.425,-2.75 3.725,-2.15
3D body: height 0.6, standoff 0, extent 3.425,-2.75 3.725,-2.6
3D body: height 0.15, standoff 0, extent 3.425,-3.2 3.725,-2.6
3D body: height 0.6, standoff 0.45, extent 2.775,-2.75 3.075,-2.15
3D body: height 0.6, standoff 0, extent 2.775,-2.75 3.075,-2.6
3D body: height 0.15, standoff 0, extent 2.775,-3.2 3.075,-2.6
3D body: height 0.6, standoff 0.45, extent 2.125,-2.75 2.425,-2.15
3D body: height 0.6, standoff 0, extent 2.125,-2.75 2.425,-2.6
3D body: height 0.15, standoff 0, extent 2.125,-3.2 2.425,-2.6
3D body: height 0.6, standoff 0.45, extent 1.475,-2.75 1.775,-2.15
3D body: height 0.6, standoff 0, extent 1.475,-2.75 1.775,-2.6
3D body: height 0.15, standoff 0, extent 1.475,-3.2 1.775,-2.6
3D body: height 0.6, standoff 0.45, extent 0.825,-2.75 1.125,-2.15
3D body: height 0.6, standoff 0, extent 0.825,-2.75 1.125,-2.6
3D body: height 0.15, standoff 0, extent 0.825,-3.2 1.125,-2.6
3D body: height 0.6, standoff 0.45, extent 0.175,-2.75 0.475,-2.15
3D body: height 0.6, standoff 0, extent 0.175,-2.75 0.475,-2.6
3D body: height 0.15, standoff 0, extent 0.175,-3.2 0.475,-2.6
3D body: height 0.6, standoff 0.45, extent -0.475,-2.75 -0.175,-2.15
3D body: height 0.6, standoff 0, extent -0.475,-2.75 -0.175,-2.6
3D body: height 0.15, standoff 0, extent -0.475,-3.2 -0.175,-2.6
3D body: height 0.6, standoff 0.45, extent -1.125,-2.75 -0.825,-2.15
3D body: height 0.6, standoff 0, extent -1.125,-2.75 -0.825,-2.6
3D body: height 0.15, standoff 0, extent -1.125,-3.2 -0.825,-2.6
3D body: height 0.6, standoff 0.45, extent -1.775,-2.75 -1.475,-2.15
3D body: height 0.6, standoff 0, extent -1.775,-2.75 -1.475,-2.6
3D body: height 0.15, standoff 0, extent -1.775,-3.2 -1.475,-2.6
3D body: height 0.6, standoff 0.45, extent -2.425,-2.75 -2.125,-2.15
3D body: height 0.6, standoff 0, extent -2.425,-2.75 -2.125,-2.6
3D body: height 0.15, standoff 0, extent -2.425,-3.2 -2.125,-2.6
3D body: height 0.6, standoff 0.45, extent -3.075,-2.75 -2.775,-2.15
3D body: height 0.6, standoff 0, extent -3.075,-2.75 -2.775,-2.6
3D body: height 0.15, standoff 0, extent -3.075,-3.2 -2.775,-2.6
3D body: height 0.15, standoff 0, extent -3.725,-3.2 -3.425,-2.6
3D body: height 0.6, standoff 0, extent -3.725,-2.75 -3.425,-2.6
3D body: height 0.6, standoff 0.45, extent -3.725,-2.75 -3.425,-2.15
3D body: height 1.2, standoff 0, extent -3.95,-2.2 3.95,2.2

## MO-153AE [mil]
pads (28):
  rect 17x70 smd: 1(0,0) 2(25.59,0) 3(51.18,0) 4(76.77,0) 5(102.36,0) 6(127.95,0) 7(153.54,0) 8(179.13,0) 9(204.72,0) 10(230.31,0) 11(255.91,0) 12(281.5,0) 13(307.09,0) 14(332.68,0) 15(332.68,240) 16(307.09,240) 17(281.5,240) 18(255.91,240) 19(230.31,240) 20(204.72,240) 21(179.13,240) 22(153.54,240) 23(127.95,240) 24(102.36,240) 25(76.77,240) 26(51.18,240) 27(25.59,240) 28(0,240)
TopOverlay:
  lines w10: -14.84,45 346.34,45 346.34,195 -14.84,195 -14.84,45 ; 0.16,60 0.16,80 25.16,80 25.16,60 0.16,60
3D body: height 47.24, standoff 0, extent -26.57,33.39 359.25,206.61
3D body: height 5.91, standoff 0, extent -5.91,-5.98 5.91,23.54
3D body: height 23.62, standoff 0, extent -5.91,17.64 5.91,23.54
3D body: height 23.62, standoff 17.72, extent -5.91,17.64 5.91,35.35
3D body: height 23.62, standoff 17.72, extent 19.69,17.64 31.5,35.35
3D body: height 23.62, standoff 0, extent 19.69,17.64 31.5,23.54
3D body: height 5.91, standoff 0, extent 19.69,-5.98 31.5,23.54
3D body: height 23.62, standoff 17.72, extent 45.28,17.64 57.09,35.35
3D body: height 23.62, standoff 0, extent 45.28,17.64 57.09,23.54
3D body: height 5.91, standoff 0, extent 45.28,-5.98 57.09,23.54
3D body: height 23.62, standoff 17.72, extent 70.87,17.64 82.68,35.35
3D body: height 23.62, standoff 0, extent 70.87,17.64 82.68,23.54
3D body: height 5.91, standoff 0, extent 70.87,-5.98 82.68,23.54
3D body: height 23.62, standoff 17.72, extent 96.46,17.64 108.27,35.35
3D body: height 23.62, standoff 0, extent 96.46,17.64 108.27,23.54
3D body: height 5.91, standoff 0, extent 96.46,-5.98 108.27,23.54
3D body: height 23.62, standoff 17.72, extent 122.05,17.64 133.86,35.35
3D body: height 23.62, standoff 0, extent 122.05,17.64 133.86,23.54
3D body: height 5.91, standoff 0, extent 122.05,-5.98 133.86,23.54
3D body: height 23.62, standoff 17.72, extent 147.64,17.64 159.45,35.35
3D body: height 23.62, standoff 0, extent 147.64,17.64 159.45,23.54
3D body: height 5.91, standoff 0, extent 147.64,-5.98 159.45,23.54
3D body: height 5.91, standoff 0, extent 326.77,-5.98 338.58,23.54
3D body: height 23.62, standoff 0, extent 326.77,17.64 338.58,23.54
3D body: height 23.62, standoff 17.72, extent 326.77,17.64 338.58,35.35
3D body: height 5.91, standoff 0, extent 301.18,-5.98 312.99,23.54
3D body: height 23.62, standoff 0, extent 301.18,17.64 312.99,23.54
3D body: height 23.62, standoff 17.72, extent 301.18,17.64 312.99,35.35
3D body: height 5.91, standoff 0, extent 275.59,-5.98 287.4,23.54
3D body: height 23.62, standoff 0, extent 275.59,17.64 287.4,23.54
3D body: height 23.62, standoff 17.72, extent 275.59,17.64 287.4,35.35
3D body: height 5.91, standoff 0, extent 250,-5.98 261.81,23.54
3D body: height 23.62, standoff 0, extent 250,17.64 261.81,23.54
3D body: height 23.62, standoff 17.72, extent 250,17.64 261.81,35.35
3D body: height 5.91, standoff 0, extent 224.41,-5.98 236.22,23.54
3D body: height 23.62, standoff 0, extent 224.41,17.64 236.22,23.54
3D body: height 23.62, standoff 17.72, extent 224.41,17.64 236.22,35.35
3D body: height 5.91, standoff 0, extent 198.82,-5.98 210.63,23.54
3D body: height 23.62, standoff 0, extent 198.82,17.64 210.63,23.54
3D body: height 23.62, standoff 17.72, extent 198.82,17.64 210.63,35.35
3D body: height 23.62, standoff 17.72, extent 173.23,17.64 185.04,35.35
3D body: height 23.62, standoff 0, extent 173.23,17.64 185.04,23.54
3D body: height 5.91, standoff 0, extent 173.23,-5.98 185.04,23.54
3D body: height 5.91, standoff 0, extent 173.23,216.46 185.04,245.98
3D body: height 23.62, standoff 0, extent 173.23,216.46 185.04,222.36
3D body: height 23.62, standoff 17.72, extent 173.23,204.65 185.04,222.36
3D body: height 5.91, standoff 0, extent 198.82,216.46 210.63,245.98
3D body: height 23.62, standoff 0, extent 198.82,216.46 210.63,222.36
3D body: height 23.62, standoff 17.72, extent 198.82,204.65 210.63,222.36
3D body: height 5.91, standoff 0, extent 224.41,216.46 236.22,245.98
3D body: height 23.62, standoff 0, extent 224.41,216.46 236.22,222.36
3D body: height 23.62, standoff 17.72, extent 224.41,204.65 236.22,222.36
3D body: height 5.91, standoff 0, extent 250,216.46 261.81,245.98
3D body: height 23.62, standoff 0, extent 250,216.46 261.81,222.36
3D body: height 23.62, standoff 17.72, extent 250,204.65 261.81,222.36
3D body: height 5.91, standoff 0, extent 275.59,216.46 287.4,245.98
3D body: height 23.62, standoff 0, extent 275.59,216.46 287.4,222.36
3D body: height 23.62, standoff 17.72, extent 275.59,204.65 287.4,222.36
3D body: height 5.91, standoff 0, extent 301.18,216.46 312.99,245.98
3D body: height 23.62, standoff 0, extent 301.18,216.46 312.99,222.36
3D body: height 23.62, standoff 17.72, extent 301.18,204.65 312.99,222.36
3D body: height 23.62, standoff 17.72, extent 326.77,204.65 338.58,222.36
3D body: height 23.62, standoff 0, extent 326.77,216.46 338.58,222.36
3D body: height 5.91, standoff 0, extent 326.77,216.46 338.58,245.98
3D body: height 5.91, standoff 0, extent -5.91,216.46 5.91,245.98
3D body: height 23.62, standoff 0, extent -5.91,216.46 5.91,222.36
3D body: height 23.62, standoff 17.72, extent -5.91,204.65 5.91,222.36
3D body: height 5.91, standoff 0, extent 19.68,216.46 31.5,245.98
3D body: height 23.62, standoff 0, extent 19.68,216.46 31.5,222.36
3D body: height 23.62, standoff 17.72, extent 19.68,204.65 31.5,222.36
3D body: height 5.91, standoff 0, extent 45.28,216.46 57.09,245.98
3D body: height 23.62, standoff 0, extent 45.28,216.46 57.09,222.36
3D body: height 23.62, standoff 17.72, extent 45.28,204.65 57.09,222.36
3D body: height 5.91, standoff 0, extent 70.87,216.46 82.68,245.98
3D body: height 23.62, standoff 0, extent 70.87,216.46 82.68,222.36
3D body: height 23.62, standoff 17.72, extent 70.87,204.65 82.68,222.36
3D body: height 5.91, standoff 0, extent 96.46,216.46 108.27,245.98
3D body: height 23.62, standoff 0, extent 96.46,216.46 108.27,222.36
3D body: height 23.62, standoff 17.72, extent 96.46,204.65 108.27,222.36
3D body: height 5.91, standoff 0, extent 122.05,216.46 133.86,245.98
3D body: height 23.62, standoff 0, extent 122.05,216.46 133.86,222.36
3D body: height 23.62, standoff 17.72, extent 122.05,204.65 133.86,222.36
3D body: height 23.62, standoff 17.72, extent 147.64,204.65 159.45,222.36
3D body: height 23.62, standoff 0, extent 147.64,216.46 159.45,222.36
3D body: height 5.91, standoff 0, extent 147.64,216.46 159.45,245.98

## MO-153AE_THPAD [mm]
pads (29):
  rect 0.3x1.7 smd paste-0.025 mask+0.07: 1(-4.225,-2.8) 2(-3.575,-2.8) 3(-2.925,-2.8) 4(-2.275,-2.8) 5(-1.625,-2.8) 6(-0.975,-2.8) 7(-0.325,-2.8) 8(0.325,-2.8) 9(0.975,-2.8) 10(1.625,-2.8) 11(2.275,-2.8) 12(2.925,-2.8) 13(3.575,-2.8) 14(4.225,-2.8) 15(4.225,2.8) 16(3.575,2.8) 17(2.925,2.8) 18(2.275,2.8) 19(1.625,2.8) 20(0.975,2.8) 21(0.325,2.8) 22(-0.325,2.8) 23(-0.975,2.8) 24(-1.625,2.8) 25(-2.275,2.8) 26(-2.925,2.8) 27(-3.575,2.8) 28(-4.225,2.8)
  rect 5.18x3.1 smd paste+0: 29(0,0)
TopOverlay:
  lines w0.25: -3.05,-1.55 -4.9,-1.55 -4.9,1.55 -3.05,1.55 ; 3.05,-1.55 4.9,-1.55 4.9,1.55 3.05,1.55 ; -5.521,-2.374 -4.886,-2.374 -4.886,-1.85 -5.521,-1.85 -5.521,-2.374
TopPaste:
  rectangle: -2.6,-1.55 2.6,1.55
3D body: height 0.15, standoff 0, extent -0.475,2.45 -0.175,3.2
3D body: height 0.6, standoff 0, extent -0.475,2.45 -0.175,2.6
3D body: height 0.6, standoff 0.45, extent -0.475,2.15 -0.175,2.6
3D body: height 0.6, standoff 0.45, extent -1.125,2.15 -0.825,2.6
3D body: height 0.6, standoff 0, extent -1.125,2.45 -0.825,2.6
3D body: height 0.15, standoff 0, extent -1.125,2.45 -0.825,3.2
3D body: height 0.6, standoff 0.45, extent -1.775,2.15 -1.475,2.6
3D body: height 0.6, standoff 0, extent -1.775,2.45 -1.475,2.6
3D body: height 0.15, standoff 0, extent -1.775,2.45 -1.475,3.2
3D body: height 0.6, standoff 0.45, extent -2.425,2.15 -2.125,2.6
3D body: height 0.6, standoff 0, extent -2.425,2.45 -2.125,2.6
3D body: height 0.15, standoff 0, extent -2.425,2.45 -2.125,3.2
3D body: height 0.6, standoff 0.45, extent -3.075,2.15 -2.775,2.6
3D body: height 0.6, standoff 0, extent -3.075,2.45 -2.775,2.6
3D body: height 0.15, standoff 0, extent -3.075,2.45 -2.775,3.2
3D body: height 0.6, standoff 0.45, extent -3.725,2.15 -3.425,2.6
3D body: height 0.6, standoff 0, extent -3.725,2.45 -3.425,2.6
3D body: height 0.15, standoff 0, extent -3.725,2.45 -3.425,3.2
3D body: height 0.6, standoff 0.45, extent -4.375,2.15 -4.075,2.6
3D body: height 0.6, standoff 0, extent -4.375,2.45 -4.075,2.6
3D body: height 0.15, standoff 0, extent -4.375,2.45 -4.075,3.2
3D body: height 0.15, standoff 0, extent 4.075,2.45 4.375,3.2
3D body: height 0.6, standoff 0, extent 4.075,2.45 4.375,2.6
3D body: height 0.6, standoff 0.45, extent 4.075,2.15 4.375,2.6
3D body: height 0.6, standoff 0.45, extent 3.425,2.15 3.725,2.6
3D body: height 0.6, standoff 0, extent 3.425,2.45 3.725,2.6
3D body: height 0.15, standoff 0, extent 3.425,2.45 3.725,3.2
3D body: height 0.6, standoff 0.45, extent 2.775,2.15 3.075,2.6
3D body: height 0.6, standoff 0, extent 2.775,2.45 3.075,2.6
3D body: height 0.15, standoff 0, extent 2.775,2.45 3.075,3.2
3D body: height 0.6, standoff 0.45, extent 2.125,2.15 2.425,2.6
3D body: height 0.6, standoff 0, extent 2.125,2.45 2.425,2.6
3D body: height 0.15, standoff 0, extent 2.125,2.45 2.425,3.2
3D body: height 0.6, standoff 0.45, extent 1.475,2.15 1.775,2.6
3D body: height 0.6, standoff 0, extent 1.475,2.45 1.775,2.6
3D body: height 0.15, standoff 0, extent 1.475,2.45 1.775,3.2
3D body: height 0.6, standoff 0.45, extent 0.825,2.15 1.125,2.6
3D body: height 0.6, standoff 0, extent 0.825,2.45 1.125,2.6
3D body: height 0.15, standoff 0, extent 0.825,2.45 1.125,3.2
3D body: height 0.6, standoff 0.45, extent 0.175,2.15 0.475,2.6
3D body: height 0.6, standoff 0, extent 0.175,2.45 0.475,2.6
3D body: height 0.15, standoff 0, extent 0.175,2.45 0.475,3.2
3D body: height 0.15, standoff 0, extent 0.175,-3.2 0.475,-2.45
3D body: height 0.6, standoff 0, extent 0.175,-2.6 0.475,-2.45
3D body: height 0.6, standoff 0.45, extent 0.175,-2.6 0.475,-2.15
3D body: height 0.6, standoff 0.45, extent 0.825,-2.6 1.125,-2.15
3D body: height 0.6, standoff 0, extent 0.825,-2.6 1.125,-2.45
3D body: height 0.15, standoff 0, extent 0.825,-3.2 1.125,-2.45
3D body: height 0.6, standoff 0.45, extent 1.475,-2.6 1.775,-2.15
3D body: height 0.6, standoff 0, extent 1.475,-2.6 1.775,-2.45
3D body: height 0.15, standoff 0, extent 1.475,-3.2 1.775,-2.45
3D body: height 0.6, standoff 0.45, extent 2.125,-2.6 2.425,-2.15
3D body: height 0.6, standoff 0, extent 2.125,-2.6 2.425,-2.45
3D body: height 0.15, standoff 0, extent 2.125,-3.2 2.425,-2.45
3D body: height 0.6, standoff 0.45, extent 2.775,-2.6 3.075,-2.15
3D body: height 0.6, standoff 0, extent 2.775,-2.6 3.075,-2.45
3D body: height 0.15, standoff 0, extent 2.775,-3.2 3.075,-2.45
3D body: height 0.6, standoff 0.45, extent 3.425,-2.6 3.725,-2.15
3D body: height 0.6, standoff 0, extent 3.425,-2.6 3.725,-2.45
3D body: height 0.15, standoff 0, extent 3.425,-3.2 3.725,-2.45
3D body: height 0.6, standoff 0.45, extent 4.075,-2.6 4.375,-2.15
3D body: height 0.6, standoff 0, extent 4.075,-2.6 4.375,-2.45
3D body: height 0.15, standoff 0, extent 4.075,-3.2 4.375,-2.45
3D body: height 0.15, standoff 0, extent -0.475,-3.2 -0.175,-2.45
3D body: height 0.6, standoff 0, extent -0.475,-2.6 -0.175,-2.45
3D body: height 0.6, standoff 0.45, extent -0.475,-2.6 -0.175,-2.15
3D body: height 0.15, standoff 0, extent -1.125,-3.2 -0.825,-2.45
3D body: height 0.6, standoff 0, extent -1.125,-2.6 -0.825,-2.45
3D body: height 0.6, standoff 0.45, extent -1.125,-2.6 -0.825,-2.15
3D body: height 0.15, standoff 0, extent -1.775,-3.2 -1.475,-2.45
3D body: height 0.6, standoff 0, extent -1.775,-2.6 -1.475,-2.45
3D body: height 0.6, standoff 0.45, extent -1.775,-2.6 -1.475,-2.15
3D body: height 0.15, standoff 0, extent -2.425,-3.2 -2.125,-2.45
3D body: height 0.6, standoff 0, extent -2.425,-2.6 -2.125,-2.45
3D body: height 0.6, standoff 0.45, extent -2.425,-2.6 -2.125,-2.15
3D body: height 0.15, standoff 0, extent -3.075,-3.2 -2.775,-2.45
3D body: height 0.6, standoff 0, extent -3.075,-2.6 -2.775,-2.45
3D body: height 0.6, standoff 0.45, extent -3.075,-2.6 -2.775,-2.15
3D body: height 0.15, standoff 0, extent -3.725,-3.2 -3.425,-2.45
3D body: height 0.6, standoff 0, extent -3.725,-2.6 -3.425,-2.45
3D body: height 0.6, standoff 0.45, extent -3.725,-2.6 -3.425,-2.15
3D body: height 0.6, standoff 0.45, extent -4.375,-2.6 -4.075,-2.15
3D body: height 0.6, standoff 0, extent -4.375,-2.6 -4.075,-2.45
3D body: height 0.15, standoff 0, extent -4.375,-3.2 -4.075,-2.45
3D body: height 1.2, standoff 0, extent -4.9,-2.2 4.9,2.2

## MO-187AA [mm]
pads (8):
  oval 1.524x0.42 smd mask+0.203: 1(0,0)
  rect 1.524x0.42 smd mask+0.203: 2(0,-0.65) 3(0,-1.3) 4(0,-1.95) 5(4.9,-1.95) 6(4.9,-1.3) 7(4.9,-0.65) 8(4.9,0)
TopOverlay:
  lines w0.25: -0.85,0.525 1.3,0.525
  lines w0.254: 1.35,-0.375 2.2,0.475 ; 1.3,-2.575 3.55,-2.575 3.55,0.525 1.3,0.525 1.3,-2.575
3D body: height 0.45, standoff 0, extent 0,-0.15 0.95,0.15
3D body: height 0.85, standoff 0.25, extent 0.95,-2.575 3.95,0.525
3D body: height 0.45, standoff 0, extent 0,-0.8 0.95,-0.5
3D body: height 0.45, standoff 0, extent 0,-1.45 0.95,-1.15
3D body: height 0.45, standoff 0, extent 0,-2.1 0.95,-1.8
3D body: height 0.45, standoff 0, extent 3.95,-2.1 4.9,-1.8
3D body: height 0.45, standoff 0, extent 3.95,-1.45 4.9,-1.15
3D body: height 0.45, standoff 0, extent 3.95,-0.8 4.9,-0.5
3D body: height 0.45, standoff 0, extent 3.95,-0.15 4.9,0.15

## MO-187AA_PAD [mm]
pads (9):
  oval 1.524x0.42 smd paste-0.07 mask+0.203: 1(-2.45,0.975)
  rect 1.524x0.42 smd paste-0.07 mask+0.203: 2(-2.45,0.325) 3(-2.45,-0.325) 4(-2.45,-0.975) 5(2.45,-0.975) 6(2.45,-0.325) 7(2.45,0.325) 8(2.45,0.975)
  rect 1.57x1.89 smd paste-0.07: 9(0,0)
TopOverlay:
  lines w0.254: -2.2,1.7 2.2,1.7 ; -1.2,-1.6 -1.2,1.5 1.2,1.5 1.2,-1.6 -1.2,-1.6
3D body: height 0.45, standoff 0, extent 1.5,0.825 2.45,1.125
3D body: height 0.45, standoff 0, extent 1.5,0.175 2.45,0.475
3D body: height 0.45, standoff 0, extent 1.5,-0.475 2.45,-0.175
3D body: height 0.45, standoff 0, extent 1.5,-1.125 2.45,-0.825
3D body: height 0.45, standoff 0, extent -2.45,-1.125 -1.5,-0.825
3D body: height 0.45, standoff 0, extent -2.45,-0.475 -1.5,-0.175
3D body: height 0.45, standoff 0, extent -2.45,0.175 -1.5,0.475
3D body: height 0.85, standoff 0.25, extent -1.5,-1.6 1.5,1.5
3D body: height 0.45, standoff 0, extent -2.45,0.825 -1.5,1.125